# EAGLE library part TXB0102DCUR (library RoboJackets-ICs)
Voltage Level Translator Bidirectional 1 Circuit 2 Channel 100Mbps 8-VSSOP Datasheet <https://www.ti.com/lit/ds/symlink/txb0102.pdf?HQS=TI-null-null-digikeymode-df-pf-null-wwe&ts=1602697640847>
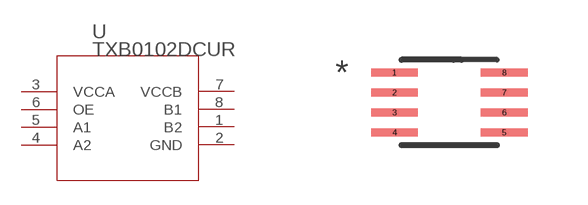
[diagram p29: symbol with the pads of DCU8; footprint DCU8]

Designator prefix U

## TXB0102DCUR (DKPN: 296-22862-1-ND)  [DCU8]
1  B2
2  GND  pwr
3  VCCA  pwr
4  A2
5  A1
6  OE  out
7  VCCB  pwr
8  B1

## Footprint DCU8 (pad centres in mm)
smd 1.168 x 0.203: 1 -1.372,0.75; 2 -1.372,0.25; 3 -1.372,-0.25; 4 -1.372,-0.75; 5 1.372,-0.75; 6 1.372,-0.25; 7 1.372,0.25; 8 1.372,0.75